# EAGLE library part 74VHC595MTCX (library Fairchild_By_element14_Batch_1)
8-Bit Shift Register with Output Latches
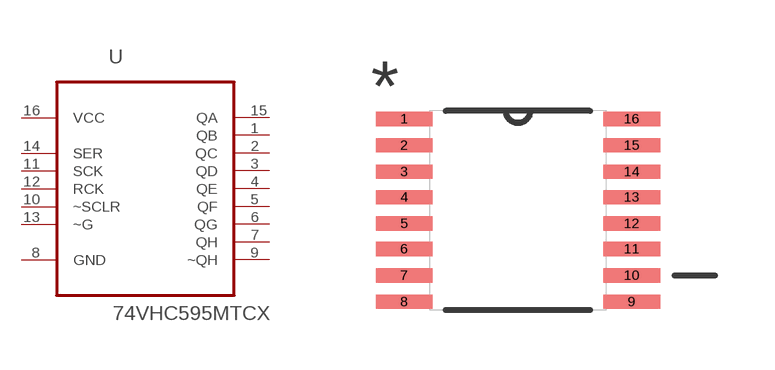
[diagram p144: symbol with the pads of SOP65P640X110-16N; footprint SOP65P640X110-16N]

Designator prefix U

## 74VHC595MTCX (MPN: 74VHC595MTCX; OC_FARNELL: 1467354; OC_NEWARK: 19C0154; PACKAGE: TSSOP-16; SUPPLIER: FAIRCHILD SEMICONDUCTOR)  [SOP65P640X110-16N]
1  QB  out
2  QC  out
3  QD  out
4  QE  out
5  QF  out
6  QG  out
7  QH  out
8  GND  pas
9  ~QH  out
10  ~SCLR  in
11  SCK  in
12  RCK  in
13  ~G  in
14  SER  in
15  QA  out
16  VCC  pwr

## Footprint SOP65P640X110-16N (pad centres in mm)
smd 1.422 x 0.356: 1 -2.845,2.286; 2 -2.845,1.626; 3 -2.845,0.965; 4 -2.845,0.33; 5 -2.845,-0.33; 6 -2.845,-0.965; 7 -2.845,-1.626; 8 -2.845,-2.286; 9 2.845,-2.286; 10 2.845,-1.626; 11 2.845,-0.965; 12 2.845,-0.33; 13 2.845,0.33; 14 2.845,0.965; 15 2.845,1.626; 16 2.845,2.286